# EAGLE library part VGA (library PP_Connectors)
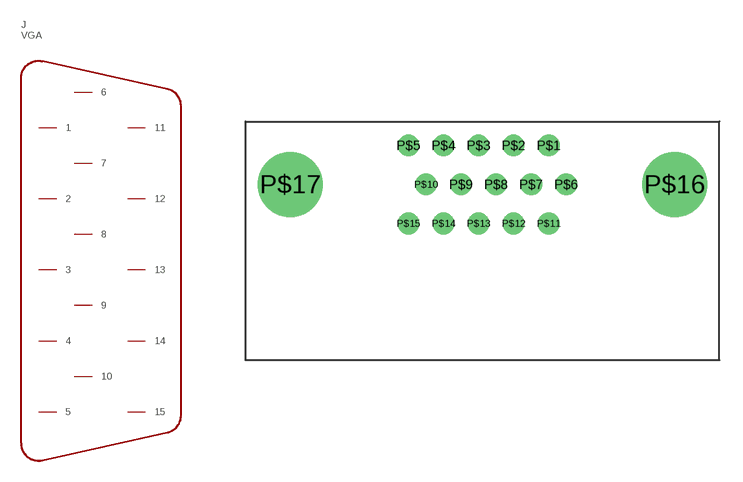
[diagram p32: symbol with the pads of ICD15S13E4GX00LF; footprint ICD15S13E4GX00LF]

Designator prefix J

## VGA_ICD15S13E4GX00LF  [ICD15S13E4GX00LF]
P$1  1
P$2  2
P$3  3
P$4  4
P$5  5
P$6  6
P$7  7
P$8  8
P$9  9
P$10  10
P$11  11
P$12  12
P$13  13
P$14  14
P$15  15

## Footprint ICD15S13E4GX00LF (pad centres in mm)
drill 0.9: P$1 4.305,2.54; P$2 2.025,2.54; P$3 -0.255,2.54; P$4 -2.535,2.54; P$5 -4.815,2.54; P$6 5.445,0; P$7 3.165,0; P$8 0.885,0; P$9 -1.395,0; P$10 -3.675,0; P$11 4.305,-2.54; P$12 2.025,-2.54; P$13 -0.255,-2.54; P$14 -2.535,-2.54; P$15 -4.815,-2.54
drill 3.2: P$16 12.495,0; P$17 -12.495,0